# EAGLE library part TUSB8041 (library Roboracing)
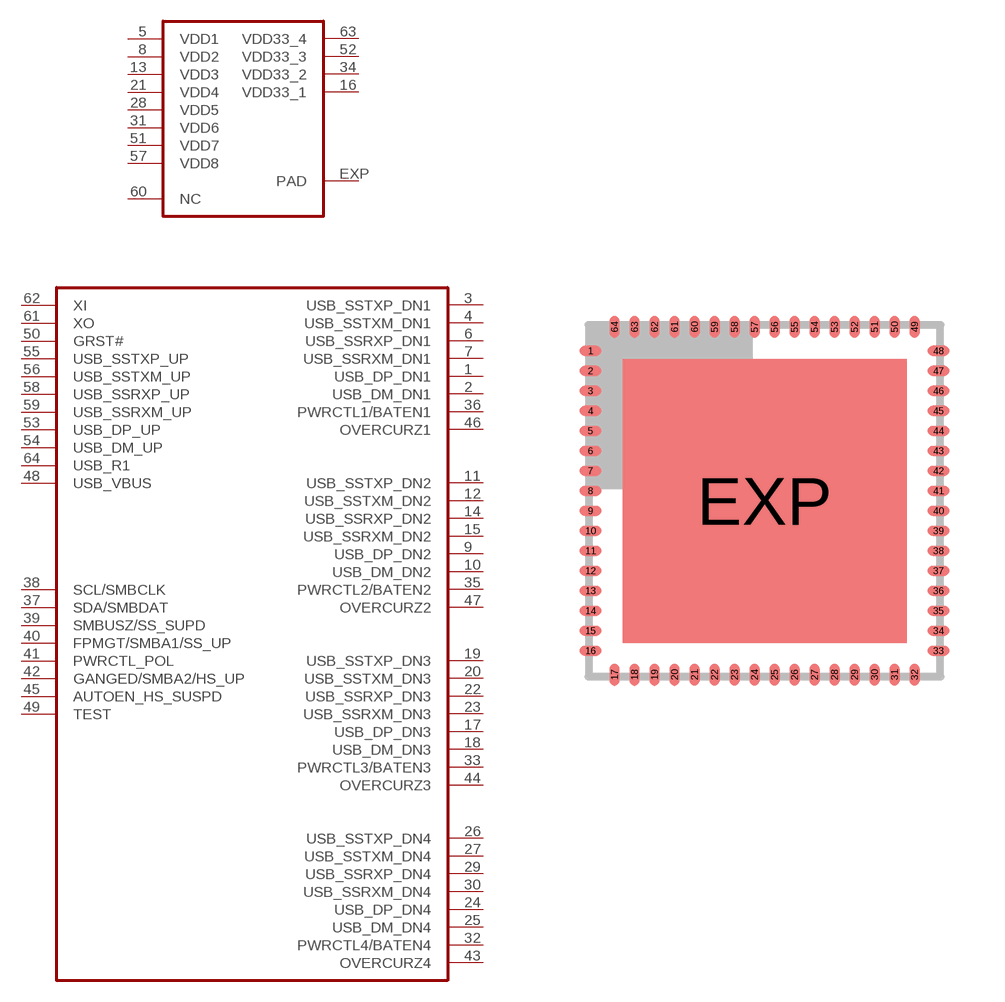
[diagram p5: symbol with the pads of QFN64-9X9; footprint QFN64-9X9]

Designator prefix U; gates G$1=TUSB8041 G$2=TUSB8041-PWR

## TUSB8041  [QFN64-9X9]
1  G$1:USB_DP_DN1
2  G$1:USB_DM_DN1
3  G$1:USB_SSTXP_DN1
4  G$1:USB_SSTXM_DN1
5  G$2:VDD1
6  G$1:USB_SSRXP_DN1
7  G$1:USB_SSRXM_DN1
8  G$2:VDD2
9  G$1:USB_DP_DN2
10  G$1:USB_DM_DN2
11  G$1:USB_SSTXP_DN2
12  G$1:USB_SSTXM_DN2
13  G$2:VDD3
14  G$1:USB_SSRXP_DN2
15  G$1:USB_SSRXM_DN2
16  G$2:VDD33_1
17  G$1:USB_DP_DN3
18  G$1:USB_DM_DN3
19  G$1:USB_SSTXP_DN3
20  G$1:USB_SSTXM_DN3
21  G$2:VDD4
22  G$1:USB_SSRXP_DN3
23  G$1:USB_SSRXM_DN3
24  G$1:USB_DP_DN4
25  G$1:USB_DM_DN4
26  G$1:USB_SSTXP_DN4
27  G$1:USB_SSTXM_DN4
28  G$2:VDD5
29  G$1:USB_SSRXP_DN4
30  G$1:USB_SSRXM_DN4
31  G$2:VDD6
32  G$1:PWRCTL4/BATEN4
33  G$1:PWRCTL3/BATEN3
34  G$2:VDD33_2
35  G$1:PWRCTL2/BATEN2
36  G$1:PWRCTL1/BATEN1
37  G$1:SDA/SMBDAT
38  G$1:SCL/SMBCLK
39  G$1:SMBUSZ/SS_SUPD
40  G$1:FPMGT/SMBA1/SS_UP
41  G$1:PWRCTL_POL
42  G$1:GANGED/SMBA2/HS_UP
43  G$1:OVERCURZ4
44  G$1:OVERCURZ3
45  G$1:AUTOEN_HS_SUSPD
46  G$1:OVERCURZ1
47  G$1:OVERCURZ2
48  G$1:USB_VBUS
49  G$1:TEST
50  G$1:GRST#
51  G$2:VDD7
52  G$2:VDD33_3
53  G$1:USB_DP_UP
54  G$1:USB_DM_UP
55  G$1:USB_SSTXP_UP
56  G$1:USB_SSTXM_UP
57  G$2:VDD8
58  G$1:USB_SSRXP_UP
59  G$1:USB_SSRXM_UP
60  G$2:NC
61  G$1:XO
62  G$1:XI
63  G$2:VDD33_4
64  G$1:USB_R1
EXP  G$2:PAD

## Footprint QFN64-9X9 (pad centres in mm)
QFN64-9X9 Source: http://www.gennum.com/video/pdf/36655DOC.pdf
smd 0.55 x 0.25: 1 -4.35,3.75; 2 -4.35,3.25; 3 -4.35,2.75; 4 -4.35,2.25; 5 -4.35,1.75; 6 -4.35,1.25; 7 -4.35,0.75; 8 -4.35,0.25; 9 -4.35,-0.25; 10 -4.35,-0.75; 11 -4.35,-1.25; 12 -4.35,-1.75; 13 -4.35,-2.25; 14 -4.35,-2.75; 15 -4.35,-3.25; 16 -4.35,-3.75; 33 4.35,-3.75; 34 4.35,-3.25; 35 4.35,-2.75; 36 4.35,-2.25; 37 4.35,-1.75; 38 4.35,-1.25; 39 4.35,-0.75; 40 4.35,-0.25; 41 4.35,0.25; 42 4.35,0.75; 43 4.35,1.25; 44 4.35,1.75; 45 4.35,2.25; 46 4.35,2.75; 47 4.35,3.25; 48 4.35,3.75
smd 0.25 x 0.55: 17 -3.75,-4.35; 18 -3.25,-4.35; 19 -2.75,-4.35; 20 -2.25,-4.35; 21 -1.75,-4.35; 22 -1.25,-4.35; 23 -0.75,-4.35; 24 -0.25,-4.35; 25 0.25,-4.35; 26 0.75,-4.35; 27 1.25,-4.35; 28 1.75,-4.35; 29 2.25,-4.35; 30 2.75,-4.35; 31 3.25,-4.35; 32 3.75,-4.35; 49 3.75,4.35; 50 3.25,4.35; 51 2.75,4.35; 52 2.25,4.35; 53 1.75,4.35; 54 1.25,4.35; 55 0.75,4.35; 56 0.25,4.35; 57 -0.25,4.35; 58 -0.75,4.35; 59 -1.25,4.35; 60 -1.75,4.35; 61 -2.25,4.35; 62 -2.75,4.35; 63 -3.25,4.35; 64 -3.75,4.35
smd 7.1 x 7.1: EXP 0,0